# EAGLE library part ATM90E26-YU-B (library 3D_MIG_Controller)
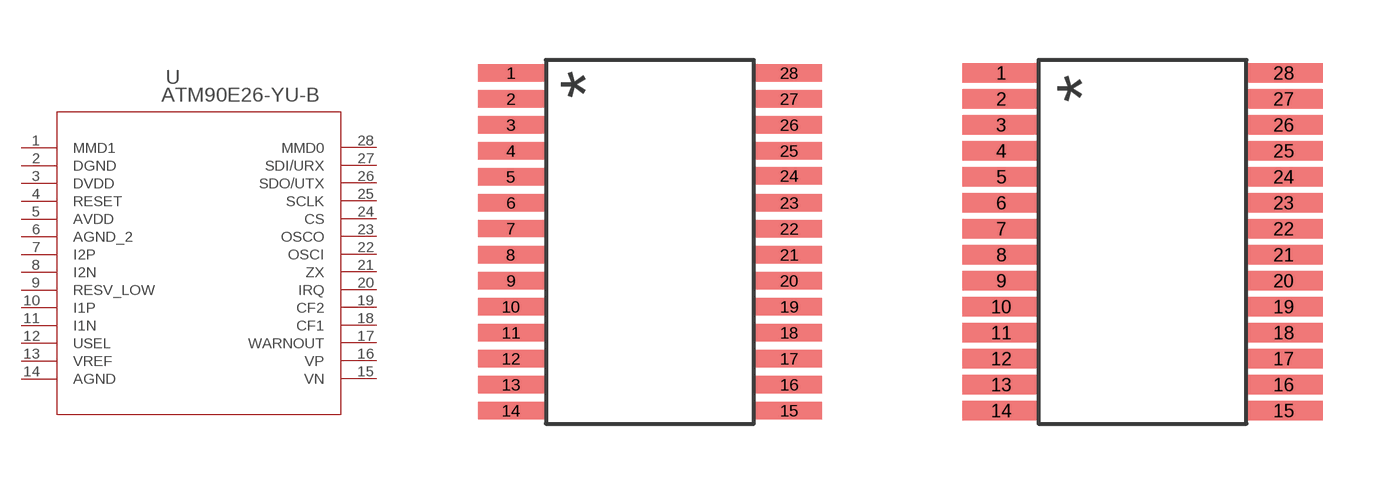
[diagram p39: symbol with the pads of SSOP28_10P3X5P4_MCH; footprints SSOP28_10P3X5P4_MCH, SSOP28_10P3X5P4_MCH-M]

Designator prefix U

## ATM90E26-YU-B (BUILT_BY: EMA_Molly; COPYRIGHT: Copyright (C) 2018 Accelerated Designs. All rights reserved; MANUFACTURER_PART_NUMBER: ATM90E26-YU-B; SOURCELIBRARY: Microchip_2019-08-23_24; VENDOR: Microchip)  [SSOP28_10P3X5P4_MCH]
1  MMD1
2  DGND  pas
3  DVDD  pwr
4  RESET  pas
5  AVDD  pwr
6  AGND_2  pas
7  I2P
8  I2N
9  RESV_LOW  pas
10  I1P
11  I1N
12  USEL  pas
13  VREF  pwr
14  AGND  pas
15  VN  pas
16  VP  pas
17  WARNOUT  out
18  CF1
19  CF2
20  IRQ  pas
21  ZX  pas
22  OSCI  pas
23  OSCO  pas
24  CS  pas
25  SCLK  pas
26  SDO/UTX  pas
27  SDI/URX  pas
28  MMD0

## ATM90E26-YU-BSSOP28_10P3X5P4_MCH-M (BUILT_BY: EMA_Molly; COPYRIGHT: Copyright (C) 2018 Accelerated Designs. All rights reserved; MANUFACTURER_PART_NUMBER: ATM90E26-YU-B; SOURCELIBRARY: Microchip_2019-08-23_24; VENDOR: Microchip)  [SSOP28_10P3X5P4_MCH-M]
Pads as for SSOP28_10P3X5P4_MCH

## ATM90E26-YU-BSSOP28_10P3X5P4_MCH-L (BUILT_BY: EMA_Molly; COPYRIGHT: Copyright (C) 2018 Accelerated Designs. All rights reserved; MANUFACTURER_PART_NUMBER: ATM90E26-YU-B; SOURCELIBRARY: Microchip_2019-08-23_24; VENDOR: Microchip)  [SSOP28_10P3X5P4_MCH-L]
Pads as for SSOP28_10P3X5P4_MCH

## Footprint SSOP28_10P3X5P4_MCH (pad centres in mm)
smd 1.651 x 0.432: 1 -3.48,4.225; 2 -3.48,3.575; 3 -3.48,2.925; 4 -3.48,2.275; 5 -3.48,1.625; 6 -3.48,0.975; 7 -3.48,0.33; 8 -3.48,-0.325; 9 -3.48,-0.975; 10 -3.48,-1.625; 11 -3.48,-2.275; 12 -3.48,-2.925; 13 -3.48,-3.575; 14 -3.48,-4.225; 15 3.48,-4.225; 16 3.48,-3.575; 17 3.48,-2.925; 18 3.48,-2.275; 19 3.48,-1.625; 20 3.48,-0.975; 21 3.48,-0.325; 22 3.48,0.325; 23 3.48,0.975; 24 3.48,1.651; 25 3.48,2.275; 26 3.48,2.925; 27 3.48,3.575; 28 3.48,4.225

## Footprint SSOP28_10P3X5P4_MCH-M (pad centres in mm)
smd 1.956 x 0.483: 1 -3.531,4.225; 2 -3.531,3.575; 3 -3.531,2.925; 4 -3.531,2.275; 5 -3.531,1.625; 6 -3.531,0.975; 7 -3.531,0.325; 8 -3.531,-0.325; 9 -3.531,-0.975; 10 -3.531,-1.625; 11 -3.531,-2.275; 12 -3.531,-2.925; 13 -3.531,-3.575; 14 -3.531,-4.225; 15 3.531,-4.225; 16 3.531,-3.575; 17 3.531,-2.925; 18 3.531,-2.275; 19 3.531,-1.625; 20 3.531,-0.975; 21 3.531,-0.325; 22 3.531,0.325; 23 3.531,0.975; 24 3.531,1.625; 25 3.531,2.275; 26 3.531,2.925; 27 3.531,3.575; 28 3.531,4.225

## Footprint SSOP28_10P3X5P4_MCH-L (pad centres in mm)
smd 1.346 x 0.381: 1 -3.429,4.225; 2 -3.429,3.575; 3 -3.429,2.925; 4 -3.429,2.275; 5 -3.429,1.625; 6 -3.429,0.975; 7 -3.429,0.325; 8 -3.429,-0.325; 9 -3.429,-0.975; 10 -3.429,-1.625; 11 -3.429,-2.275; 12 -3.429,-2.925; 13 -3.429,-3.575; 14 -3.429,-4.225; 15 3.429,-4.225; 16 3.429,-3.575; 17 3.429,-2.925; 18 3.429,-2.275; 19 3.429,-1.625; 20 3.429,-0.975; 21 3.429,-0.325; 22 3.429,0.325; 23 3.429,0.975; 24 3.429,1.625; 25 3.429,2.275; 26 3.429,2.925; 27 3.429,3.575; 28 3.429,4.225